# EAGLE library part MA08-1 (library componenten aanmaken)
PIN HEADER
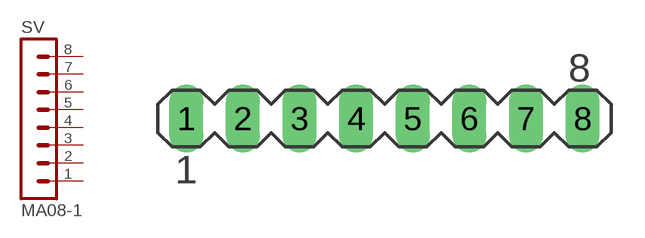
[diagram p12: symbol with the pads of MA08-1; footprint MA08-1]

Designator prefix SV

## MA08-1 (OC_FARNELL: unknown; OC_NEWARK: unknown)  [MA08-1]
1  1  pas
2  2  pas
3  3  pas
4  4  pas
5  5  pas
6  6  pas
7  7  pas
8  8  pas

## Footprint MA08-1 (pad centres in mm)
PIN HEADER
drill 1.016 long: 1 -8.89,0; 2 -6.35,0; 3 -3.81,0; 4 -1.27,0; 5 1.27,0; 6 3.81,0; 7 6.35,0; 8 8.89,0